# EAGLE library part SN74AVC4T774 (library 74AVC)
4-Bit Dual-Supply Bus Transceiver Configurable Voltage Translation and 3-State Outputs
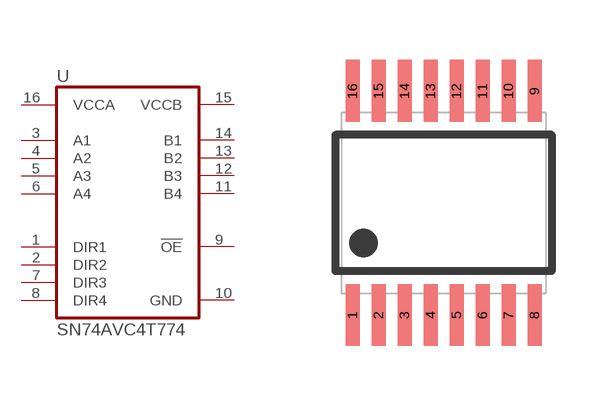
[diagram p0: symbol with the pads of TSSOP16; footprint TSSOP16]

Designator prefix U

## SN74AVC4T774  [TSSOP16]
1  DIR1  in
2  DIR2  in
3  A1
4  A2
5  A3
6  A4
7  DIR3  in
8  DIR4  in
9  !OE!  in
10  GND  pwr
11  B4
12  B3
13  B2
14  B1
15  VCCB  pwr
16  VCCA  pwr

## Footprint TSSOP16 (pad centres in mm)
16-TSSOP PW (R-PDSO-G16) Body (0.173", 4.40mm Width)
smd 0.35 x 1.55: 1 -2.275,-2.8; 2 -1.625,-2.8; 3 -0.975,-2.8; 4 -0.325,-2.8; 5 0.325,-2.8; 6 0.975,-2.8; 7 1.625,-2.8; 8 2.275,-2.8; 9 2.275,2.8; 10 1.625,2.8; 11 0.975,2.8; 12 0.325,2.8; 13 -0.325,2.8; 14 -0.975,2.8; 15 -1.625,2.8; 16 -2.275,2.8